# Altium integrated library Altium_WE-CHSA (rev22d).IntLib: 54 symbols (part 2 of 2)
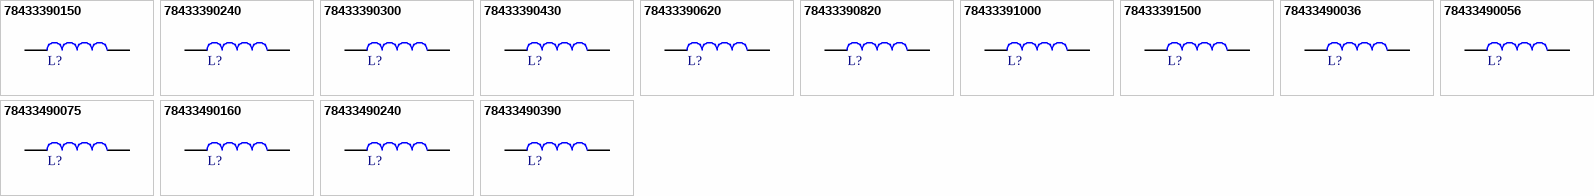
[diagram p2: symbols 78433390150 to 78433490390]

## 78433490240
designator L?, comment 2.4µH, 6.8A  (value not drawn)
WE-CHSA P Performance SMT High Current Inductor, size 8090, 2.4µH, 6.8A, 18.4mΩ; Manufacturer Part Number: 78433490240; Manufacturer: Wurth Elektronik; Case/Size Code: 8090; DC Resistance: 15.35mΩ; Inductance Tolerance: 20%; Saturation Current: 18.4A; Self Resonant Frequency: 80MHz; Category: Single Coil Power Inductors; Match Code: WE-CHSA; ComponentLink1Description: Website Link; ComponentLink1URL: https://www.we-online.com/redexpert/article/78433490240?ad; ComponentLink2Description: Datasheet Link; ComponentLink2URL: https://www.we-online.com/redexpert/spec/78433490240?ad; Mount: Surface Mount; Operating Temperature Max: 150°C; Operating Temperature Min: -55°C; Packaging: Tape and Reel; Length: 8.1mm; Width: 8.1mm; Height: 9mm; Automotive: Yes; DC Resistance Max: 18.4mΩ; Inductance: 2.4µH; Rated Current: 6.8A
footprint WE-CHSA_8090
simulation model 8090_78433490240_2.4u
pins: 1, 2

## 78433490390
designator L?, comment 3.9µH, 5A  (value not drawn)
WE-CHSA P Performance SMT High Current Inductor, size 8090, 3.9µH, 5A, 28.9mΩ; Manufacturer Part Number: 78433490390; Manufacturer: Wurth Elektronik; Case/Size Code: 8090; DC Resistance: 24.1mΩ; Inductance Tolerance: 20%; Saturation Current: 14.6A; Self Resonant Frequency: 65MHz; Category: Single Coil Power Inductors; Match Code: WE-CHSA; ComponentLink1Description: Website Link; ComponentLink1URL: https://www.we-online.com/redexpert/article/78433490390?ad; ComponentLink2Description: Datasheet Link; ComponentLink2URL: https://www.we-online.com/redexpert/spec/78433490390?ad; Mount: Surface Mount; Operating Temperature Max: 150°C; Operating Temperature Min: -55°C; Packaging: Tape and Reel; Length: 8.1mm; Width: 8.1mm; Height: 9mm; Automotive: Yes; DC Resistance Max: 28.9mΩ; Inductance: 3.9µH; Rated Current: 5A
footprint WE-CHSA_8090
simulation model 8090_78433490390_3.9u
pins: 1, 2